# Altium footprint library DCM3623x50T17A6y7z.PCBLIB: 1 footprints
Each footprint in its own frame and in the unit in brackets; x right, y up, seen from the top. Pads: shape width x height; smd on the part's side, far side on the other; paste and mask are expansions set on the pad; w line width, h text height; cw(c..) or ccw(c..) is an arc to the next point about the centre after c.
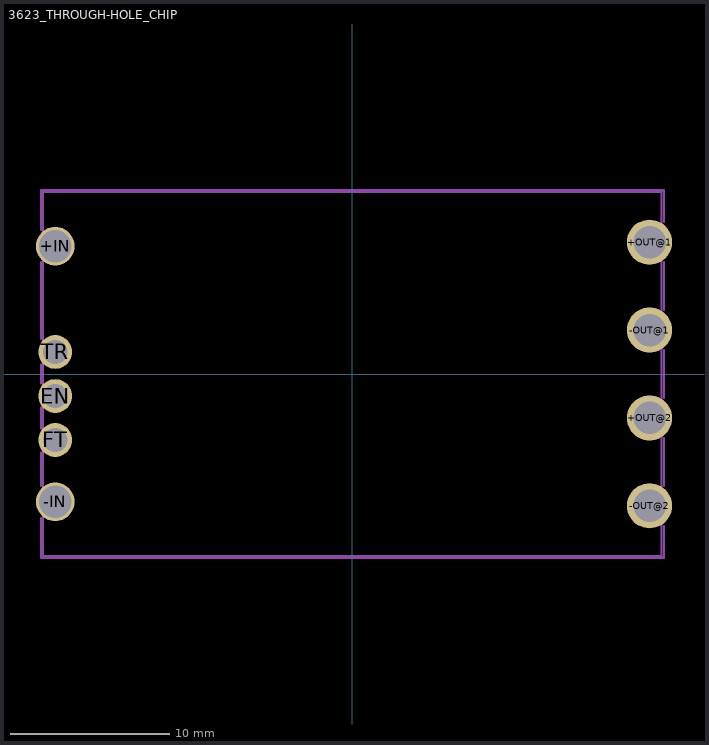
[diagram p0: the footprint, top view; thin cyan lines are the x and y axes]

## 3623_THROUGH-HOLE_CHIP [mm]
pads (9):
  round 2.43 / inner round 1.524 / far side round 2.43 hole 2.03: +IN(-18.6,8) -IN(-18.6,-8)
  round 2.83 / inner round 1.524 / far side round 2.83 hole 2.03: +OUT@1(18.6,8.25) +OUT@2(18.6,-2.75) -OUT@1(18.6,2.75) -OUT@2(18.6,-8.25)
  round 2.12 / inner round 1.524 / far side round 2.12 hole 1.52: EN(-18.6,-1.38) FT(-18.6,-4.13) TR(-18.6,1.38)
Mechanical 8:
  lines w0.127: -19.36,-11.4 -19.36,11.4 19.36,11.4 19.36,-11.4 -19.36,-11.4
Mechanical 22:
  lines w0.127: -19.5,-9 -19.5,-11.5 19.5,-11.5 19.5,-9.5 ; -19.5,-7 -19.5,-4.9 ; -19.5,-3.4 -19.5,-2.1 ; -19.5,-0.6 -19.5,0.6 ; -19.5,2.2 -19.5,7 ; -19.5,9 -19.5,11.5 19.5,11.5 19.5,9.5 ; 19.5,-7 19.5,-4 ; 19.5,-1.5 19.5,1.5 ; 19.5,4 19.5,7